# EAGLE library part NOKIA_LCD (library MyDuino)
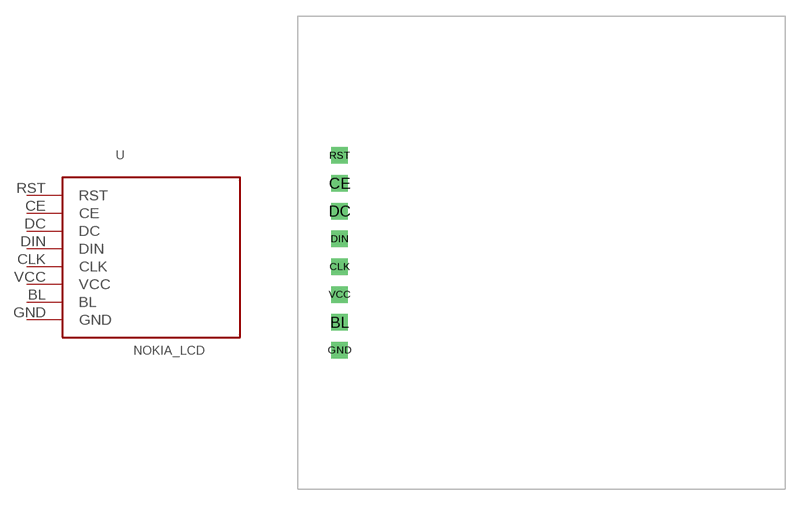
[diagram p7: symbol with the pads of NOKIA_LCD; footprint NOKIA_LCD]

Designator prefix -

## NOKIA_LCD  [NOKIA_LCD]
BL  BL
CE  CE
CLK  CLK
DC  DC
DIN  DIN
GND  GND
RST  RST
VCC  VCC

## Footprint NOKIA_LCD (pad centres in mm)
drill 1 square: BL -2.54,-7.62; CE -2.54,5.08; CLK -2.54,-2.54; DC -2.54,2.54; DIN -2.54,0; GND -2.54,-10.16; RST -2.54,7.62; VCC -2.54,-5.08